# Altium footprint library CONN-PLS-8-2.00mm.PcbLib: 1 footprints
Each footprint in its own frame and in the unit in brackets; x right, y up, seen from the top. Pads: shape width x height; smd on the part's side, far side on the other; paste and mask are expansions set on the pad; w line width, h text height; cw(c..) or ccw(c..) is an arc to the next point about the centre after c.
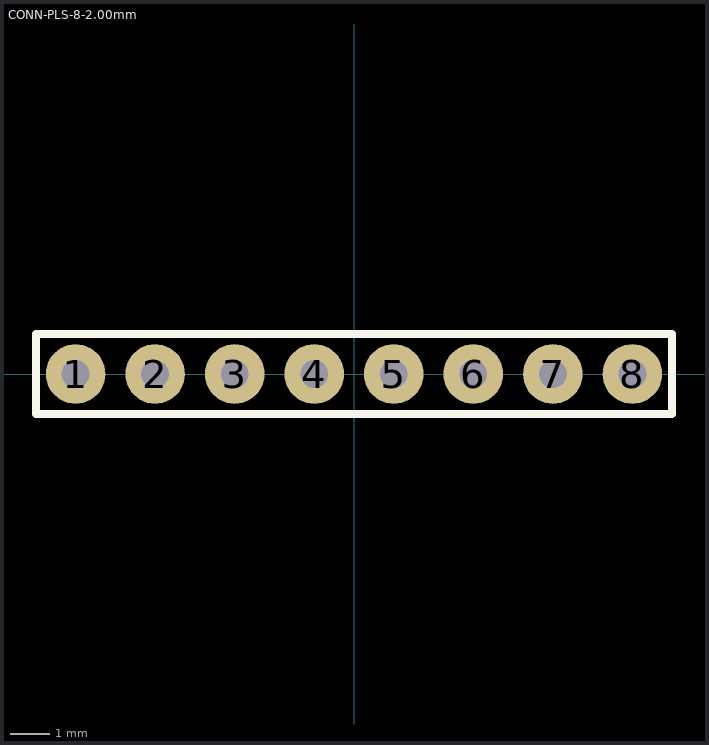
[diagram p0: the footprint, top view; thin cyan lines are the x and y axes]

## CONN-PLS-8-2.00mm [mm]
pads (8):
  round 1.5 hole 0.7: 1(-7,0) 2(-5,0) 3(-3,0) 4(-1,0) 5(1,0) 6(3,0) 7(5,0) 8(7,0)
Top Overlay:
  lines w0.2: -8,-1 -8,1 8,1 8,-1 -8,-1
Top Assembly:
  lines w0.1: -8,-1 -8,1 8,1 8,-1 -8,-1
  text "'.Designator'" at -0.5,-0.05 h0.7
3D body "User Library-pls2-8_asm.STEP": height 6.04, standoff -2.76, extent -8,-1 8,1